# Altium schematic symbol library STTH4R02U.SchLib: 1 symbol
Pins are listed as number, name and electrical type; pins without a type are passive.

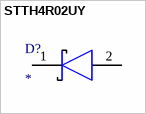
[diagram p0: symbol STTH4R02UY]

## STTH4R02UY
designator D?
Diode; Manufacturer_Name: STMicroelectronics; Manufacturer_Part_Number: STTH4R02UY; Description: Rectifiers Ultrafast Recovery4A 200V 16ns Planar Pt; Datasheet Link: http://www.st.com/content/ccc/resource/technical/document/datasheet/f7/b0/f4/2f/8e/1a/4d/1d/CD00270577.pdf/files/CD00270577.pdf/jcr:content/translations/en.CD00270577.pdf; Height: 2.65mm; Mouser Part Number: 511-STTH4R02UY; Mouser Price/Stock: https://www.mouser.com/Search/Refine.aspx?Keyword=511-STTH4R02UY
footprint DIOM5436X265N
pins: 1 K, 2 A